# Altium schematic symbol library MB525_1.SCHLIB: 48 symbols
Pins are listed as number, name and electrical type; pins without a type are passive.

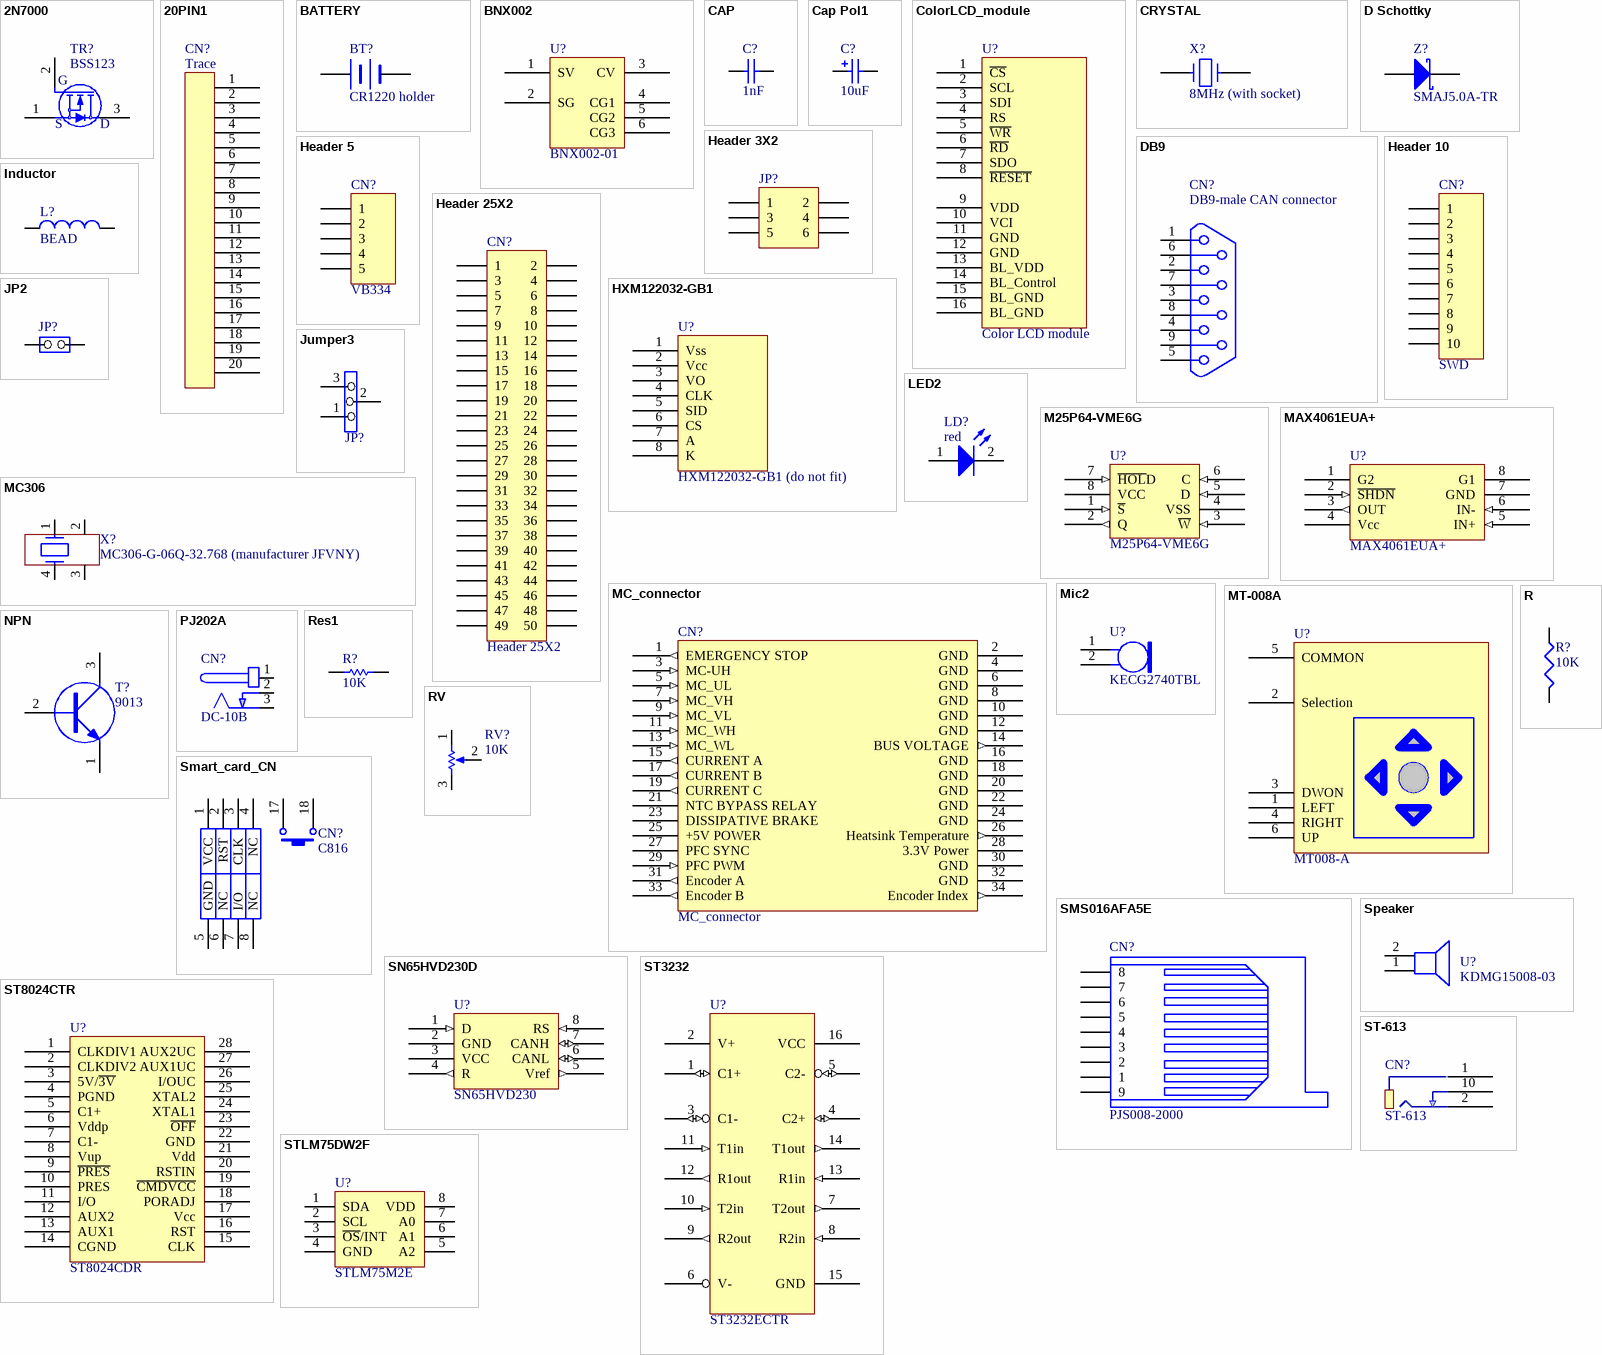
[diagram p0: symbols 2N7000 to STLM75DW2F]

## 2N7000
designator TR?, comment BSS123
footprint SOT23-3L (Footprint not found)
footprint SOT-23
pins: 1 S, 2 G, 3 D

## 20PIN1
designator CN?, comment Trace
footprint IDC20L (Footprint not found)
footprint IDC20S
pins: 1, 2, 3, 4, 5, 6, 7, 8, 9, 10, 11, 12, 13, 14, 15, 16, 17, 18, 19, 20
2 alternate drawings of the same symbol

## BATTERY
designator BT?, comment CR1220 holder
Battery
footprint BATT (Footprint not found)
pins: 1 +, 2 -
2 alternate drawings of the same symbol

## BNX002
designator U?, comment BNX002-01
footprint BNX001 (Footprint not found)
pins: 1 SV, 2 SG, 3 CV, 4 CG1, 5 CG2, 6 CG3

## CAP
designator C?, comment 1nF
Capacitor; Value: 100pF; Published: 8-Jun-2000; Revision: July-2002: Re-released for DXP Platform.; Publisher: Altium Limited
footprint RAD-0.3 (Capacitor; 2 Leads)
simulation model CAP (Capacitor)
signal-integrity model Cap
footprint CAPR5.08-7.8X3.2
footprint CAPR2.54-5.1X3.2
footprint 0603
pins: 1, 2

## Cap Pol1
designator C?, comment 10uF
Polarized Capacitor (Radial); Published: 8-Jun-2000; Revision: July-2002: Re-released for DXP Platform.; Publisher: Altium Limited; Value: 10uF
simulation model CAP (Capacitor)
signal-integrity model Cap Pol
footprint 3528 (Footprint not found)
footprint TAN-B
pins: 1, 2

## ColorLCD_module
designator U?, comment Color LCD module
footprint AM240320A (Footprint not found)
pins: 1 ~{CS}, 2 SCL, 3 SDI, 4 RS, 5 ~{WR}, 6 ~{RD}, 7 SDO, 8 ~{RESET}, 9 VDD, 10 VCI, 11 GND, 12 GND, 13 BL_VDD, 14 BL_Control, 15 BL_GND, 16 BL_GND

## CRYSTAL
designator X?, comment 8MHz (with socket)
Crystal
footprint XTAL1 (Footprint not found)
pins: 1, 2
2 alternate drawings of the same symbol

## D Schottky
designator Z?, comment SMAJ5.0A-TR
Schottky Diode; Code - JEDEC: DO-214-AA; Published: 8-Jun-2000; Revision: July-2002: Re-released for DXP Platform.; Publisher: Altium Limited
footprint 1R1C (Footprint not found)
pins: 1 A, 2 K

## DB9
designator CN?, comment DB9-male CAN connector
footprint DB9/M (Footprint not found)
pins: 1, 2, 3, 4, 5, 6, 7, 8, 9

## Header 3X2
designator JP?
Header, 3-Pin, Dual row; Revision: 17-Jul-2002: Re-released for DXP Platform.; Publisher: Altium Limited
footprint 2*3P (Footprint not found)
signal-integrity model Connector
pins: 1, 2, 3, 4, 5, 6

## Header 5
designator CN?, comment VB334
Header, 5-Pin; Revision: 17-Jul-2002: Re-released for DXP Platform.; Publisher: Altium Limited
footprint VB334 (Footprint not found)
pins: 1, 2, 3, 4, 5

## Header 10
designator CN?, comment SWD
Header, 10-Pin; Revision: 17-Jul-2002: Re-released for DXP Platform.; Publisher: Altium Limited
footprint HDR1X10 (Connector; Header; 10 Position)
signal-integrity model Connector
footprint IDC10S
pins: 1, 2, 3, 4, 5, 6, 7, 8, 9, 10

## Header 25X2
designator CN?
Header, 25-Pin, Dual row; Revision: 17-Jul-2002: Re-released for DXP Platform.; Publisher: Altium Limited
footprint 2*25P (Footprint not found)
signal-integrity model Connector
pins: 1, 2, 3, 4, 5, 6, 7, 8, 9, 10, 11, 12, 13, 14, 15, 16, 17, 18, 19, 20, 21, 22, 23, 24, 25, 26, 27, 28, 29, 30, 31, 32, 33, 34, 35, 36, 37, 38, 39, 40, 41, 42, 43, 44, 45, 46, 47, 48, 49, 50

## HXM122032-GB1
designator U?, comment HXM122032-GB1 (do not fit)
footprint LCD12232-GB1 (Footprint not found)
pins: 1 Vss, 2 Vcc, 3 VO, 4 CLK, 5 SID, 6 CS, 7 A, 8 K

## Inductor
designator L?, comment BEAD
Inductor; Value: 100uH; Published: 8-Jun-2000; Revision: July-2002: Re-released for DXP Platform.; Publisher: Altium Limited
footprint 0603 (Footprint not found)
pins: 1, 2

## JP2
designator JP?
footprint SIP2 (Footprint not found)
pins: 1 COMMON, 2 NO

## Jumper3
designator JP?
footprint SIP3 (Footprint not found)
pins: 1, 2, 3

## LED2
designator LD?, comment red
Typical RED, GREEN, YELLOW, AMBER GaAs LED; Published: 8-Jun-2000; Revision: July-2002: Re-released for DXP Platform.; Publisher: Altium Limited
footprint D0603 (Footprint not found)
pins: 1 A, 2 K

## M25P64-VME6G
designator U?
footprint VDFPN8(8*6) (Footprint not found)
pins: 1 ~{S} (in), 2 Q (out), 3 ~{W} (in), 4 VSS (power), 5 D (in), 6 C (in), 7 ~{HOL}D (in), 8 VCC (power)

## MAX4061EUA+
designator U?
footprint 8uMAX (Footprint not found)
footprint tssop8
pins: 1 G2, 2 ~{SHDN} (in), 3 OUT (out), 4 Vcc (power), 5 IN+ (in), 6 IN- (in), 7 GND (power), 8 G1

## MC306
designator X?, comment MC306-G-06Q-32.768 (manufacturer JFVNY)
footprint SM8 (Footprint not found)
pins: 1, 2, 3, 4

## MC_connector
designator CN?
footprint IDC34S (Footprint not found)
pins: 1 EMERGENCY STOP (out), 2 GND (power), 3 MC-UH (in), 4 GND (power), 5 MC_UL (in), 6 GND (power), 7 MC_VH (in), 8 GND (power), 9 MC_VL (in), 10 GND (power), 11 MC_WH (in), 12 GND (power), 13 MC_WL (in), 14 BUS VOLTAGE (out), 15 CURRENT A (out), 16 GND (power), 17 CURRENT B (out), 18 GND (power), 19 CURRENT C (out), 20 GND (power), 21 NTC BYPASS RELAY, 22 GND (power), 23 DISSIPATIVE BRAKE, 24 GND (power), 25 +5V POWER (power), 26 Heatsink Temperature (out), 27 PFC SYNC, 28 3.3V Power (power), 29 PFC PWM (in), 30 GND (power), 31 Encoder A (out), 32 GND (power), 33 Encoder B (out), 34 Encoder Index (out)

## Mic2
designator U?, comment KECG2740TBL
Microphone; Published: 24-Mar-1999; Revision: July-2002: Re-released for DXP Platform.; Publisher: Altium Limited
footprint KEC2740 (Footprint not found)
pins: 1, 2

## MT-008A
designator U?, comment MT008-A
footprint JOY (Footprint not found)
pins: 1 LEFT, 2 Selection, 3 DWON, 4 RIGHT, 5 COMMON, 6 UP

## NPN
designator T?, comment 9013
footprint SOT-23
pins: 1 E, 2 B, 3 C

## PJ202A
designator CN?, comment DC-10B
footprint DC10B (Footprint not found)
pins: 1 +, 2 GND, 3 GND

## R
designator R?, comment 10K
Right: 20; Bottom: 30
footprint 0603 (Footprint not found)
pins: 1, 2
2 alternate drawings of the same symbol

## Res1
designator R?, comment 10K
Resistor; Value: 1K; Published: 8-Jun-2000; Revision: July-2002: Re-released for DXP Platform.; Publisher: Altium Limited
footprint AXIAL-0.3 (Resistor; 2 Leads)
simulation model RESISTOR (Resistor)
signal-integrity model Res
footprint 0603
pins: 1, 2
1 alternate drawing of the same symbol

## RV
designator RV?, comment 10K
footprint ADJRH (Footprint not found)
pins: 1 BOT, 2 TAP, 3 TOP

## Smart_card_CN
designator CN?, comment C816
footprint SAM(C816) (Footprint not found)
pins: 1 VCC, 2 RST, 3 CLK, 4 NC, 5 GND, 6 NC, 7 I/O, 8 NC, 17, 18

## SMS016AFA5E
designator CN?, comment PJS008-2000
footprint MSD(PJS008) (Footprint not found)
pins: 1, 2, 3, 4, 5, 6, 7, 8, 9

## SN65HVD230D
designator U?, comment SN65HVD230
footprint SO8 (Small Outline; 8 Leads; Body Width 3.9 mm; Pitch 1.27 mm)
pins: 1 D (in), 2 GND (power), 3 VCC (power), 4 R (out), 5 Vref (out), 6 CANL (io), 7 CANH (io), 8 RS (in)

## Speaker
designator U?, comment KDMG15008-03
Loudspeaker; Published: 24-Mar-1999; Revision: July-2002: Re-released for DXP Platform.; Publisher: Altium Limited
footprint KS1508 (Footprint not found)
pins: 1 +, 2 --

## ST3232
designator U?, comment ST3232ECTR
3.3V/5V Dual RS232 Transceiver w/ Int. Cap.
footprint TSSOP16 (Footprint not found)
pins: 1 C1+ (io), 2 V+, 3 C1- (io), 4 C2+ (io), 5 C2- (io), 6 V-, 7 T2out (out), 8 R2in (in), 9 R2out (out), 10 T2in (in), 11 T1in (in), 12 R1out (out), 13 R1in (in), 14 T1out (out), 15 GND, 16 VCC
2 alternate drawings of the same symbol

## ST8024CTR
designator U?, comment ST8024CDR
footprint SO28 (Footprint not found)
pins: 1 CLKDIV1, 2 CLKDIV2, 3 5V/~{3V}, 4 PGND, 5 C1+, 6 Vddp, 7 C1-, 8 Vup, 9 ~{PRES}, 10 PRES, 11 I/O, 12 AUX2, 13 AUX1, 14 CGND, 15 CLK, 16 RST, 17 Vcc, 18 PORADJ, 19 ~{CMDVCC}, 20 RSTIN, 21 Vdd, 22 GND, 23 ~{OFF}, 24 XTAL1, 25 XTAL2, 26 I/OUC, 27 AUX1UC, 28 AUX2UC

## ST-613
designator CN?
footprint ST-613 (Footprint not found)
footprint PJST-613
pins: 1, 2, 10

## STLM75DW2F
designator U?, comment STLM75M2E
footprint SO8 (Footprint not found)
pins: 1 SDA, 2 SCL, 3 ~{OS}/INT, 4 GND, 5 A2, 6 A1, 7 A0, 8 VDD

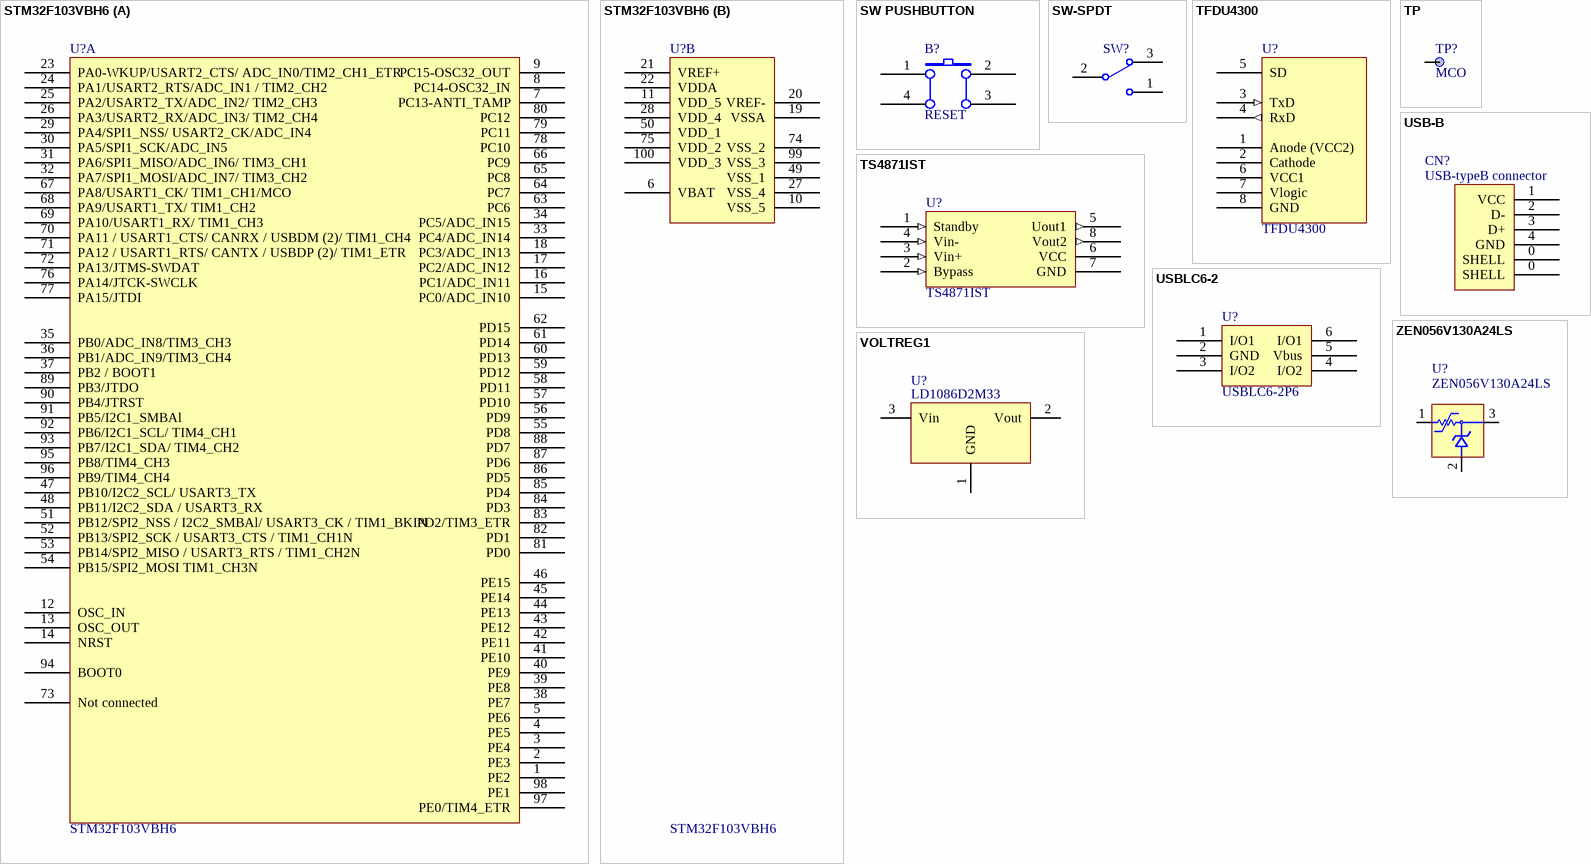
[diagram p1: symbols STM32F103VBH6 to ZEN056V130A24LS]

## STM32F103VBH6
designator U?
part A pins: 1 PE2, 2 PE3, 3 PE4, 4 PE5, 5 PE6, 7 PC13-ANTI_TAMP, 8 PC14-OSC32_IN, 9 PC15-OSC32_OUT, 12 OSC_IN, 13 OSC_OUT, 14 NRST, 15 PC0/ADC_IN10, 16 PC1/ADC_IN11, 17 PC2/ADC_IN12, 18 PC3/ADC_IN13, 23 PA0-WKUP/USART2_CTS/
ADC_IN0/TIM2_CH1_ETR, 24 PA1/USART2_RTS/ADC_IN1
/
TIM2_CH2, 25 PA2/USART2_TX/ADC_IN2/
TIM2_CH3, 26 PA3/USART2_RX/ADC_IN3/
TIM2_CH4, 29 PA4/SPI1_NSS/
USART2_CK/ADC_IN4, 30 PA5/SPI1_SCK/ADC_IN5, 31 PA6/SPI1_MISO/ADC_IN6/
TIM3_CH1, 32 PA7/SPI1_MOSI/ADC_IN7/
TIM3_CH2, 33 PC4/ADC_IN14, 34 PC5/ADC_IN15, 35 PB0/ADC_IN8/TIM3_CH3, 36 PB1/ADC_IN9/TIM3_CH4, 37 PB2 / BOOT1, 38 PE7, 39 PE8, 40 PE9, 41 PE10, 42 PE11, 43 PE12, 44 PE13, 45 PE14, 46 PE15, 47 PB10/I2C2_SCL/
USART3_TX, 48 PB11/I2C2_SDA /
USART3_RX, 51 PB12/SPI2_NSS /
I2C2_SMBAl/
USART3_CK /
TIM1_BKIN, 52 PB13/SPI2_SCK /
USART3_CTS /
TIM1_CH1N, 53 PB14/SPI2_MISO /
USART3_RTS /
TIM1_CH2N, 54 PB15/SPI2_MOSI
TIM1_CH3N, 55 PD8, 56 PD9, 57 PD10, 58 PD11, 59 PD12, 60 PD13, 61 PD14, 62 PD15, 63 PC6, 64 PC7, 65 PC8, 66 PC9, 67 PA8/USART1_CK/
TIM1_CH1/MCO, 68 PA9/USART1_TX/
TIM1_CH2, 69 PA10/USART1_RX/
TIM1_CH3, 70 PA11 / USART1_CTS/
CANRX / USBDM (2)/
TIM1_CH4, 71 PA12 / USART1_RTS/
CANTX / USBDP (2)/
TIM1_ETR, 72 PA13/JTMS-SWDAT, 73 Not connected, 76 PA14/JTCK-SWCLK, 77 PA15/JTDI, 78 PC10, 79 PC11, 80 PC12, 81 PD0, 82 PD1, 83 PD2/TIM3_ETR, 84 PD3, 85 PD4, 86 PD5, 87 PD6, 88 PD7, 89 PB3/JTDO, 90 PB4/JTRST, 91 PB5/I2C1_SMBAl, 92 PB6/I2C1_SCL/
TIM4_CH1, 93 PB7/I2C1_SDA/
TIM4_CH2, 94 BOOT0, 95 PB8/TIM4_CH3, 96 PB9/TIM4_CH4, 97 PE0/TIM4_ETR, 98 PE1
part B pins: 6 VBAT, 10 VSS_5, 11 VDD_5, 19 VSSA, 20 VREF-, 21 VREF+, 22 VDDA, 27 VSS_4, 28 VDD_4, 49 VSS_1, 50 VDD_1, 74 VSS_2, 75 VDD_2, 99 VSS_3, 100 VDD_3

## SW PUSHBUTTON
designator B?, comment RESET
SE PUSHBUTTON
footprint PB (Footprint not found)
footprint PB10
pins: 1 A0, 2 B0, 3 B1, 4 A1

## SW-SPDT
designator SW?
SPDT Subminiature Toggle Switch, Right Angle Mounting, Vertical Actuation; Revision 1: Jul-2002: Re-released for DXP Platform.; Revision 2: 17-Dec-2003: Schematic revised, PCB Footprint replaced.; Published: 24-Mar-1999; Datasheet: Latest Revision: 05-Dec-2000; Publisher: Altium Limited
footprint SIP3 (Footprint not found)
pins: 1, 2, 3

## TFDU4300
designator U?
footprint IR_VISHAY3 (Footprint not found)
pins: 1 Anode (VCC2), 2 Cathode, 3 TxD (in), 4 RxD (out), 5 SD, 6 VCC1, 7 Vlogic, 8 GND
2 alternate drawings of the same symbol

## TP
designator TP?, comment MCO
footprint TP (Footprint not found)
pins: 1

## TS4871IST
designator U?
footprint miniSO8 (Footprint not found)
footprint TSSOP8
pins: 1 Standby (in), 2 Bypass (in), 3 Vin+ (in), 4 Vin- (in), 5 Uout1 (out), 6 VCC (power), 7 GND (power), 8 Vout2 (out)

## USB-B
designator CN?, comment USB-typeB connector
USB-B
footprint USB-B (Footprint not found)
pins: 0 SHELL, 0 SHELL, 1 VCC, 2 D-, 3 D+, 4 GND

## USBLC6-2
designator U?, comment USBLC6-2P6
footprint SOT-666 (Footprint not found)
pins: 1 I/O1, 2 GND, 3 I/O2, 4 I/O2, 5 Vbus, 6 I/O1

## VOLTREG1
designator U?, comment LD1086D2M33
footprint D2PAK/A (Footprint not found)
pins: 1 GND, 2 Vout, 3 Vin
2 alternate drawings of the same symbol

## ZEN056V130A24LS
designator U?
footprint polyzen (Footprint not found)
pins: 1, 2, 3